# Altium schematic symbol library 3220-14-0300-00.SchLib: 1 symbol
Pins are listed as number, name and electrical type; pins without a type are passive.

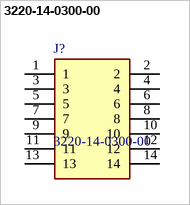
[diagram p0: symbol 3220-14-0300-00]

## 3220-14-0300-00
designator J?
IDC BOX HEADER 0.050 14 POS; Manufacturer_Name: CNC Tech; Geometry.Height: 5.8mm; Manufacturer_Part_Number: 3220-14-0300-00; Mouser Part Number: *; Mouser Price/Stock: *; Arrow Part Number: 3220-14-0300-00; Arrow Price/Stock: https://www.arrow.com/en/products/3220-14-0300-00/cnc-tech-llc; Mouser Testing Part Number: *; Mouser Testing Price/Stock: *; Datasheet Link: http://cnctech.us/pdfs/3220-XX-0300-00.pdf
footprint 322014030000
pins: 1, 2, 3, 4, 5, 6, 7, 8, 9, 10, 11, 12, 13, 14